# Altium footprint library CAPACITOR.PcbLib: 20 footprints (part 2 of 2)
Each footprint in its own frame and in the unit in brackets; x right, y up, seen from the top. Pads: shape width x height; smd on the part's side, far side on the other; paste and mask are expansions set on the pad; w line width, h text height; cw(c..) or ccw(c..) is an arc to the next point about the centre after c.
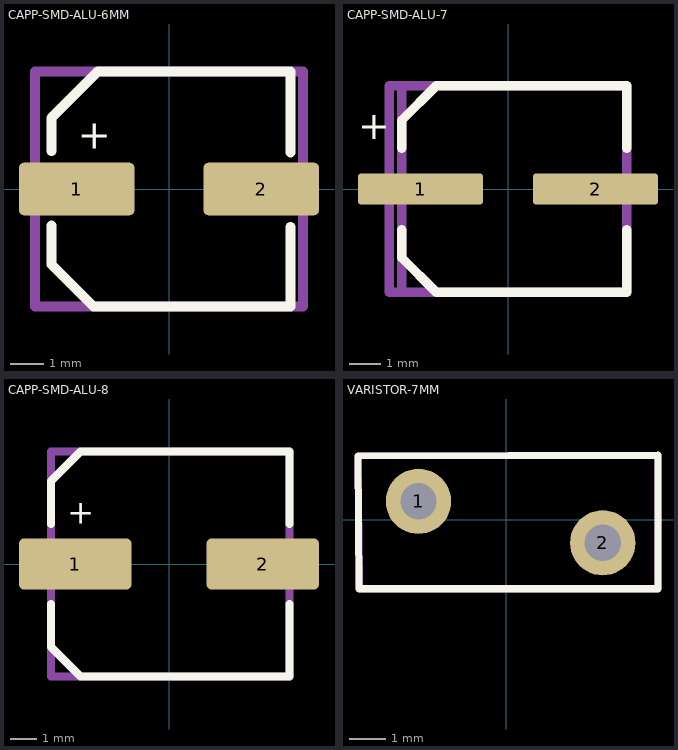
[diagram p1: the footprints below, top view; thin cyan lines are the x and y axes]

## CAPP-SMD-ALU-6MM [mm]
pads (2):
  rrect20% 3.5x1.6 smd: 1(-2.793,0) 2(2.793,0)
Top Overlay:
  lines w0.3: -3.556,-1.1 -3.556,-2.286 -2.286,-3.556 3.683,-3.556 3.683,-1.143 ; -3.556,1.143 -3.556,2.159 -2.159,3.556 3.683,3.556 3.683,1.1
  text "+" at -2.759,1.216 h0.89
Mechanical 13:
  lines w0.3: -4.064,-3.556 4.064,-3.556 4.064,3.556 -4.064,3.556 -4.064,-3.556
3D body "CAPAE-D6.3x5.4.stp": height 5.5, standoff 0, extent -3.9,-3.4 3.9,3.4

## CAPP-SMD-ALU-7 [mm]
pads (2):
  rrect20% 4x1 smd: 1(-2.8,0) 2(2.8,0)
Top Overlay:
  lines w0.3: -3.4,-1.3 -3.4,-2.2 -2.3,-3.3 3.8,-3.3 3.8,-1.3 ; -3.4,1.3 -3.4,2.2 -2.3,3.3 3.8,3.3 3.8,1.3
  text "+" at -4.8,1.6 h0.89
Mechanical 13:
  lines w0.3: -3.4,-3.3 3.8,-3.3 3.8,3.3 -3.4,3.3 -3.4,-3.3
Mechanical 15:
  lines w0.3: -3.8,-3.3 -3.8,3.3 3.8,3.3 3.8,-3.3 -3.8,-3.3
3D body "EDK226M050A9HAA.step": height 7.91, standoff -0.1, extent -3.8,-3.4 3.8,3.4

## CAPP-SMD-ALU-8 [mm]
pads (2):
  rrect20% 4.2x1.9 smd: 1(-3.5,0) 2(3.5,0)
Top Overlay:
  lines w0.3: -4.4,-1.5 -4.4,-3.1 -3.3,-4.2 4.5,-4.2 4.5,-1.5 ; -4.4,1.5 -4.4,3.1 -3.3,4.2 4.5,4.2 4.5,1.5
  text "+" at -3.8,1.5 h0.89
Mechanical 13:
  lines w0.3: -4.4,-4.2 -4.4,4.2 4.5,4.2 4.5,-4.2 -4.4,-4.2
Mechanical 15:
  lines w0.3: -4.4,-4.2 4.5,-4.2 4.5,4.2 -4.4,4.2 -4.4,-4.2
3D body "CAPAE830X1050D830L395X90.STEP": height 10.5, standoff 0, extent -5.475,-4.15 5.475,4.15

## VARISTOR-7MM [mm]
pads (2):
  round 1.8 hole 1: 1(-2.413,0.508) 2(2.667,-0.635)
Top Overlay:
  lines w0.2: -4.082,1.761 -4.053,-1.905 4.191,-1.905 4.191,1.778 -4.082,1.761
Mechanical 13:
  lines w0.2: -4.08,1.761 -4.051,-1.905 4.191,-1.905 4.191,1.778 -4.08,1.761
Mechanical 29:
  text ".Designator" at -2.921,-0.508 h1.02
3D body "07D431K.SLDPRT": height 9.2, standoff -3.8, extent -3.873,-1.749 4.127,1.651